# Altium schematic symbol library 6N139.SCHLIB: 1 symbol
Pins are listed as number, name and electrical type; pins without a type are passive.

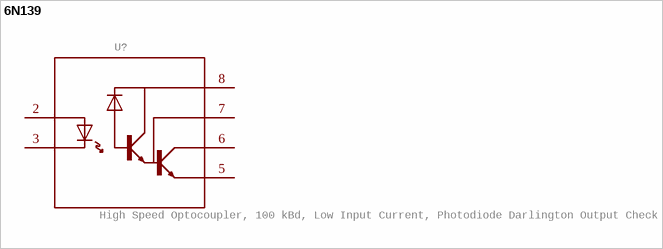
[diagram p0: symbol 6N139]

## 6N139
designator U?, comment High Speed Optocoupler, 100 kBd, Low Input Current, Photodiode Darlington Output Check availability
GateName_1: G$1; SymbolName_1: 6N139; MF: Vishay Semiconductor; Description: control, pin, process, photo, Optoelectronics, single, voltage, speed, analog, semiconductor, style, temperature, min...; LibraryName: 6N139; DeviceSetName: 6N139; Package: DIP762W50P254L977H451Q8; Package: DIP-8 Rochester Electronics; Price: None; MP: 6N139; Availability: In Stock; Purchase-URL: https://pricing.snapeda.com/search?q=6N139&ref=eda
footprint DIP762W50P254L977H451Q8
pins: 2 A, 3 C, 5 GND (power), 6 VO, 7 VB, 8 VCC (power)